# EAGLE library part LTC6992CDCB-3TRMPBF (library LTC6992CDCB-3TRMPBF)
Voltage-Controlled Pulse Width Modulator (PWM)
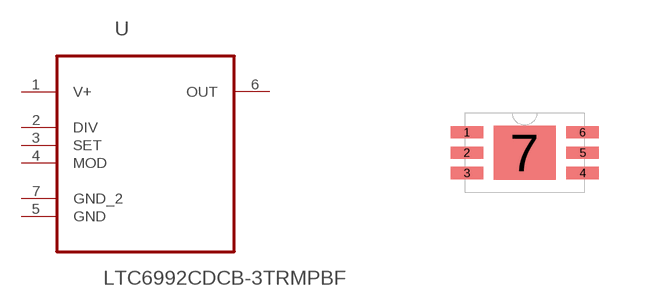
[diagram p0: symbol with the pads of DFN200X300X80-7N; footprint DFN200X300X80-7N]

Designator prefix U

## LTC6992CDCB-3TRMPBF (Availability: Unavailable; Description: Silicon Oscillator - 0.00000381MHz to 1MHz CMOS Automotive 6-Pin DFN EP T/R; MF: Analog Devices; MP: LTC6992CDCB-3#TRMPBF; Package: DFN -6 Analog Devices; Price: None)  [DFN200X300X80-7N]
1  V+  pwr
2  DIV  in
3  SET  in
4  MOD  in
5  GND  pas
6  OUT  out
7  GND_2  pas

## Footprint DFN200X300X80-7N (pad centres in mm)
smd 0.813 x 0.305: 1 -1.448,0.508; 2 -1.448,0; 3 -1.448,-0.508; 4 1.448,-0.508; 5 1.448,0; 6 1.448,0.508
smd 1.549 x 1.346: 7 0,0